# Altium schematic symbol library Schlib1.SchLib: 2 symbols
Pins are listed as number, name and electrical type; pins without a type are passive.

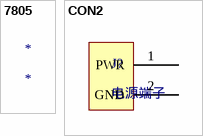
[diagram p0: symbols 7805 to CON2]

## 7805
designator *

## CON2
designator J?, comment 电源端子
POWER
pins: 1 PWR, 2 GND
1 alternate drawing of the same symbol